# EAGLE library part DCDC_JCA (library wheat)
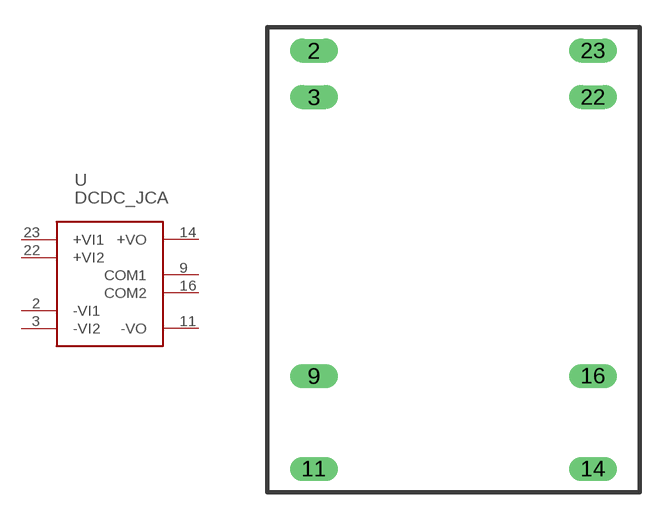
[diagram p276: symbol with the pads of DCDC_JCA; footprint DCDC_JCA]

Designator prefix -

## DCDC_JCA  [DCDC_JCA]
2  -VI1  in
3  -VI2  in
9  COM1  out
11  -VO  out
14  +VO  out
16  COM2  out
22  +VI2  in
23  +VI1  in

## Footprint DCDC_JCA (pad centres in mm)
drill 0.8 long: 2 -7.62,11.43; 3 -7.62,8.89; 9 -7.62,-6.35; 11 -7.62,-11.43; 14 7.62,-11.43; 16 7.62,-6.35; 22 7.62,8.89; 23 7.62,11.43